# EAGLE library part BNO085_SLIMEVR (library BNO085_SmileVR_Module)
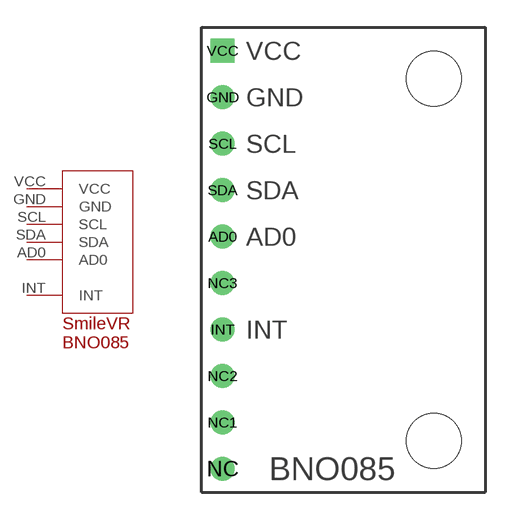
[diagram p0: symbol with the pads of BNO085_MODULE; footprint BNO085_MODULE]

Designator prefix -

## BNO085_SLIMEVR  [BNO085_MODULE]
AD0  AD0
GND  GND
INT  INT
SCL  SCL
SDA  SDA
VCC  VCC

## Footprint BNO085_MODULE (pad centres in mm)
drill 0.8: AD0 0,-10.16; GND 0,-2.54; INT 0,-15.24; NC 0,-22.86; NC1 0,-20.32; NC2 0,-17.78; NC3 0,-12.7; SCL 0,-5.08; SDA 0,-7.62
drill 0.8 square: VCC 0,0
hole 3 at 11.55,-21.336
hole 3 at 11.55,-1.524